# EAGLE library part PIC32MX110F016B-I_SO (library PIC32MX110F016B-I_SO)
32-bit Microcontrollers (up to 256 KB Flash and 64 KB SRAM) with Audio and Graphics Interfaces, USB, and Advanced Analog Source: Datasheet <http://ww1.microchip.com/downloads/en/DeviceDoc/60001168H.pdf>
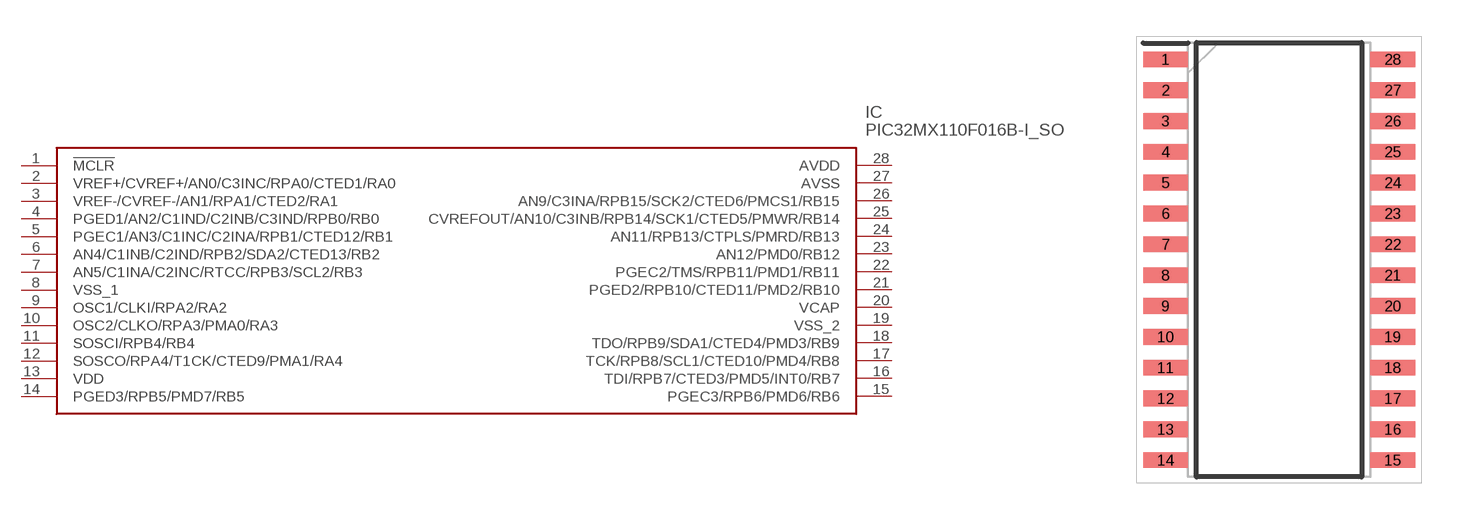
[diagram p0: symbol with the pads of SOIC127P1030X265-28N; footprint SOIC127P1030X265-28N]

Designator prefix IC

## PIC32MX110F016B-I_SO (Allied_Number: 70452123; Allied_Price/Stock: http://www.alliedelec.com/microchip-technology-inc-pic32mx110f016b-i-so/70452123/; Arrow_Part_Number: PIC32MX110F016B-I/SO; Arrow_Price/Stock: https://www.arrow.com/en/products/pic32mx110f016b-iso/microchip-technology; Description: 32-bit Microcontrollers (up to 256 KB Flash and 64 KB SRAM) with Audio and Graphics Interfaces, USB, and Advanced Analog; Height: 2.65mm; Manufacturer_Name: Microchip; Manufacturer_Part_Number: PIC32MX110F016B-I/SO)  [SOIC127P1030X265-28N]
1  !MCLR
2  VREF+/CVREF+/AN0/C3INC/RPA0/CTED1/RA0  in
3  VREF-/CVREF-/AN1/RPA1/CTED2/RA1  in
4  PGED1/AN2/C1IND/C2INB/C3IND/RPB0/RB0  in
5  PGEC1/AN3/C1INC/C2INA/RPB1/CTED12/RB1  in
6  AN4/C1INB/C2IND/RPB2/SDA2/CTED13/RB2  in
7  AN5/C1INA/C2INC/RTCC/RPB3/SCL2/RB3  in
8  VSS_1  pwr
9  OSC1/CLKI/RPA2/RA2  in
10  OSC2/CLKO/RPA3/PMA0/RA3  out
11  SOSCI/RPB4/RB4
12  SOSCO/RPA4/T1CK/CTED9/PMA1/RA4
13  VDD  pwr
14  PGED3/RPB5/PMD7/RB5
15  PGEC3/RPB6/PMD6/RB6
16  TDI/RPB7/CTED3/PMD5/INT0/RB7  in
17  TCK/RPB8/SCL1/CTED10/PMD4/RB8
18  TDO/RPB9/SDA1/CTED4/PMD3/RB9
19  VSS_2  pwr
20  VCAP
21  PGED2/RPB10/CTED11/PMD2/RB10
22  PGEC2/TMS/RPB11/PMD1/RB11
23  AN12/PMD0/RB12
24  AN11/RPB13/CTPLS/PMRD/RB13
25  CVREFOUT/AN10/C3INB/RPB14/SCK1/CTED5/PMWR/RB14  out
26  AN9/C3INA/RPB15/SCK2/CTED6/PMCS1/RB15  in
27  AVSS  pwr
28  AVDD  pwr

## Footprint SOIC127P1030X265-28N (pad centres in mm)
(SO)28-Lead(SOIC)
smd 1.85 x 0.65: 1 -4.675,8.255; 2 -4.675,6.985; 3 -4.675,5.715; 4 -4.675,4.445; 5 -4.675,3.175; 6 -4.675,1.905; 7 -4.675,0.635; 8 -4.675,-0.635; 9 -4.675,-1.905; 10 -4.675,-3.175; 11 -4.675,-4.445; 12 -4.675,-5.715; 13 -4.675,-6.985; 14 -4.675,-8.255; 15 4.675,-8.255; 16 4.675,-6.985; 17 4.675,-5.715; 18 4.675,-4.445; 19 4.675,-3.175; 20 4.675,-1.905; 21 4.675,-0.635; 22 4.675,0.635; 23 4.675,1.905; 24 4.675,3.175; 25 4.675,4.445; 26 4.675,5.715; 27 4.675,6.985; 28 4.675,8.255